# Altium footprint library myPcbLib.PcbLib: 32 footprints (part 2 of 2)
Each footprint in its own frame and in the unit in brackets; x right, y up, seen from the top. Pads: shape width x height; smd on the part's side, far side on the other; paste and mask are expansions set on the pad; w line width, h text height; cw(c..) or ccw(c..) is an arc to the next point about the centre after c.
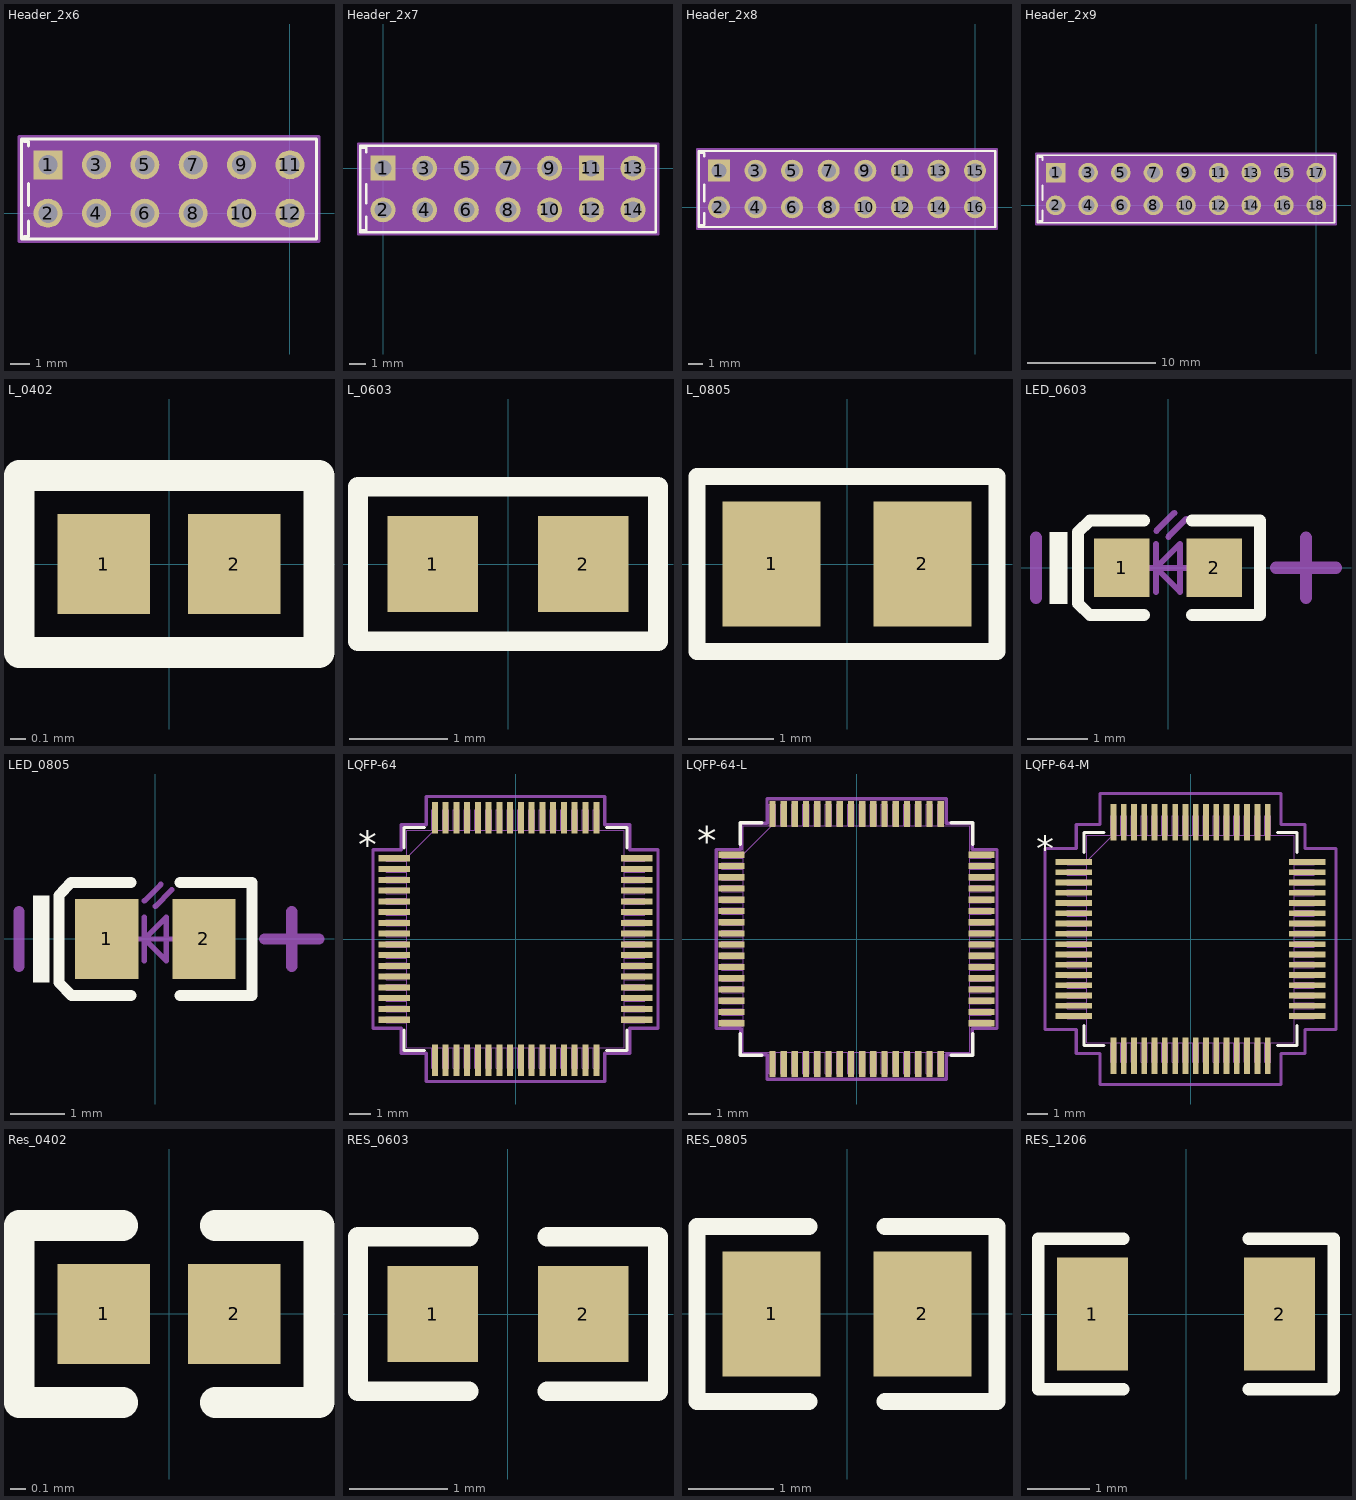
[diagram p1: the footprints below, top view; thin cyan lines are the x and y axes]

## Header_2x6 [mil] "2x6P双排排针，脚距2.54mm"
pads (12):
  rect 60x60 hole 40 mask+0: 1(-500,100)
  round 60 hole 40 mask+0: 2(-500,0) 3(-400,100) 4(-400,0) 5(-300,100) 6(-300,0) 7(-200,100) 8(-200,0) 9(-100,100) 10(-100,0) 11(0,100) 12(0,0)
Top Overlay:
  lines w6: -550,-48.5 -540,-48.5 -540,-16.05 ; -550,148.5 -540,148.5 -540,138.46 ; -540,16.05 -540,61.54 ; -555,-53.5 -555,153.5 55,153.5 55,-53.5 -555,-53.5
Mechanical 13:
  lines w1: -550,-48.5 -550,148.5 ; -550,-48.5 50,-48.5 50,148.5 -550,148.5 ; -550,-48.5 -540,-48.5 -540,148.5 -550,148.5
Mechanical 15:
  region: 60,158.5 -560,158.5 -560,-58.5 60,-58.5
  lines w6: -560,-58.5 60,-58.5 60,158.5 -560,158.5 -560,-58.5
3D body: height 10, standoff 0, extent 0,0 10,10
3D body "CON12_2X6_P100UM_HDR.stp": height 374.02, standoff -200, extent -549.99,-49.99 50.01,150.01

## Header_2x7 [mil] "2x7P双排排针，脚距2.54mm"
pads (14):
  rect 60x60 hole 40 mask+0: 1(0,0) 11(500,0)
  round 60 hole 40 mask+0: 2(0,-100) 3(100,0) 4(100,-100) 5(200,0) 6(200,-100) 7(300,0) 8(300,-100) 9(400,0) 10(400,-100) 12(500,-100) 13(600,0) 14(600,-100)
Top Overlay:
  lines w6: -50,-148.5 -40,-148.5 -40,-116.05 ; -50,48.5 -40,48.5 -40,38.46 ; -40,-83.95 -40,-38.46 ; -55,-153.5 -55,53.5 655,53.5 655,-153.5 -55,-153.5
Mechanical 13:
  lines w1: 460,-148.5 450,-148.5 ; 460,48.5 450,48.5 ; -50,-148.5 -50,48.5 ; -50,-148.5 450,-148.5 ; -50,-148.5 -40,-148.5 -40,48.5 -50,48.5 ; -50,48.5 450,48.5 ; 450,-148.5 650,-148.5 650,48.5 450,48.5
Mechanical 15:
  region: 660,58.5 -60,58.5 -60,-158.5 660,-158.5
  lines w6: -60,-158.5 660,-158.5 660,58.5 -60,58.5 -60,-158.5
3D body: height 10, standoff 0, extent 400,-100 410,-90
3D body "CON10_2X5_P100UM_HDR2.stp": height 374.02, standoff -200, extent -49.99,-149.99 450.01,50.01
3D body "CON4_2X2_P100UM_HDR.stp": height 374.02, standoff -200, extent 450.01,-149.99 650.01,50.01
3D body: height 10, standoff 0, extent 600,-100 610,-90
3D body: height 374.02, standoff -200, extent -60,75 -60,75

## Header_2x8 [mil] "2x8P双排排针，脚距2.54mm"
pads (16):
  rect 60x60 hole 40 mask+0: 1(-700,100)
  round 60 hole 40 mask+0: 2(-700,0) 3(-600,100) 4(-600,0) 5(-500,100) 6(-500,0) 7(-400,100) 8(-400,0) 9(-300,100) 10(-300,0) 11(-200,100) 12(-200,0) 13(-100,100) 14(-100,0) 15(0,100) 16(0,0)
Top Overlay:
  lines w6: -750,-48.5 -740,-48.5 -740,-16.05 ; -750,148.5 -740,148.5 -740,138.46 ; -740,16.05 -740,61.54 ; -755,-53.5 55,-53.5 55,153.5 -755,153.5 -755,-53.5
Mechanical 13:
  lines w1: -750,-48.5 -740,-48.5 -740,148.5 -750,148.5 ; -750,-48.5 50,-48.5 50,148.5 -750,148.5 ; -750,-48.5 -750,148.5
Mechanical 15:
  region: 60,158.5 -760,158.5 -760,-58.5 60,-58.5
  lines w6: -760,-58.5 -760,158.5 60,158.5 60,-58.5 -760,-58.5
3D body "CON16_2X8_P100UM_HDR.stp": height 374.02, standoff -200, extent -749.99,-49.99 50.01,150.01
3D body: height 10, standoff 0, extent 0,0 10,10

## Header_2x9 [mil] "2x9P双排排针，脚距2.54mm"
pads (18):
  rect 60x60 hole 40 mask+0: 1(-800,100)
  round 60 hole 40 mask+0: 2(-800,0) 3(-700,100) 4(-700,0) 5(-600,100) 6(-600,0) 7(-500,100) 8(-500,0) 9(-400,100) 10(-400,0) 11(-300,100) 12(-300,0) 13(-200,100) 14(-200,0) 15(-100,100) 16(-100,0) 17(0,100) 18(0,0)
Top Overlay:
  lines w6: -850,-48.5 -840,-48.5 -840,-16.05 ; -850,148.5 -840,148.5 -840,138.46 ; -840,16.05 -840,61.54 ; -855,-53.5 -855,153.5 55,153.5 55,-53.5 -855,-53.5
Mechanical 13:
  lines w1: -850,-48.5 -850,148.5 ; -850,-48.5 50,-48.5 50,148.5 -850,148.5 ; -850,-48.5 -840,-48.5 -840,148.5 -850,148.5
Mechanical 15:
  region: 60,158.5 -860,158.5 -860,-58.5 60,-58.5
  lines w6: -860,-58.5 60,-58.5 60,158.5 -860,158.5 -860,-58.5
3D body: height 10, standoff 0, extent 0,0 10,10
3D body "CON18_2X9_P100UM_HDR.stp": height 374.02, standoff -200, extent -849.99,-49.99 50.01,150.01

## L_0402 [mm] "贴片电感0402封装"
pads (2):
  rect 0.6x0.65 smd mask+0.051: 1(-0.425,0) 2(0.425,0)
Top Overlay:
  lines w0.2: -0.975,-0.575 0.975,-0.575 0.975,0.575 -0.975,0.575 -0.975,-0.575
3D body "L0402.STEP": height 0.36, standoff -0.01, extent -0.512,-0.262 0.538,0.263

## L_0603 [mm] "贴片电感0603封装"
pads (2):
  rect 0.93x0.98 smd: 1(-0.77,0) 2(0.77,0)
Top Overlay:
  lines w0.2: -1.535,-0.79 1.535,-0.79 1.535,0.79 -1.535,0.79 -1.535,-0.79
3D body "L0603.STEP": height 0.46, standoff -0.01, extent -0.825,-0.412 0.825,0.413

## L_0805 [mm] "贴片电感0805封装"
pads (2):
  rect 1.16x1.47 smd: 1(-0.89,0) 2(0.89,0)
Top Overlay:
  lines w0.2: -1.77,-1.035 -1.77,1.035 1.77,1.035 1.77,-1.035 -1.77,-1.035
3D body "L0805.STEP": height 0.6, standoff -0.02, extent -1.022,-0.637 1.028,0.638

## LED_0603 [mm] "发光二极管0603封装"
pads (2):
  rect 0.93x0.98 smd: 1(-0.77,0) 2(0.77,0)
Top Overlay:
  rectangle: -1.975,-0.6 -1.675,0.6
  lines w0.2: -0.4,-0.79 -1.3,-0.79 -1.5,-0.597 -1.5,0.597 -1.3,0.79 -0.4,0.79 ; 0.4,-0.79 1.535,-0.79 1.535,0.79 0.4,0.79
Mechanical 13:
  lines w0.1: -0.4,0 0.4,0 ; -0.2,-0.4 -0.2,0.4 ; -0.195,0.617 0.105,0.917 ; 0.005,0.517 0.305,0.817 ; -0.2,0 0.2,-0.4 0.2,0.4 -0.2,0
Mechanical 15:
  lines w0.203: -2.2,-0.5 -2.2,0.5 ; 1.8,0 2.8,0 ; 2.3,-0.5 2.3,0.5
3D body "User Library-LED_0603_R.STEP": height 0.6, standoff 0, extent -0.8,-0.4 0.8,0.4

## LED_0805 [mm] "发光二极管0805封装"
pads (2):
  rect 1.16x1.47 smd: 1(-0.89,0) 2(0.89,0)
Top Overlay:
  rectangle: -2.245,-0.8 -1.945,0.8
  lines w0.2: -0.45,-1.035 -1.535,-1.035 -1.77,-0.8 -1.77,0.8 -1.55,1.035 -0.45,1.035 ; 0.45,-1.035 1.77,-1.035 1.77,1.035 0.45,1.035
Mechanical 13:
  lines w0.1: -0.4,0 0.4,0 ; -0.2,-0.4 -0.2,0.4 ; -0.2,0.7 0.1,1 ; 0,0.6 0.3,0.9 ; -0.2,0 0.2,-0.4 0.2,0.4 -0.2,0
Mechanical 15:
  lines w0.203: -2.5,-0.5 -2.5,0.5 ; 2,0 3,0 ; 2.5,-0.5 2.5,0.5
3D body "User Library-led_0805.step": height 1.1, standoff 0, extent -1.01,-0.625 1.01,0.625

## LQFP-64 [mil] "64脚，体宽10x10mm，脚距0.5mm"
pads (64):
  rect 58x11 smd paste+0 mask+0: 1(-221.5,147.64) 2(-221.5,127.95) 3(-221.5,108.27) 4(-221.5,88.58) 5(-221.5,68.9) 6(-221.5,49.21) 7(-221.5,29.53) 8(-221.5,9.84) 9(-221.5,-9.84) 10(-221.5,-29.53) 11(-221.5,-49.21) 12(-221.5,-68.9) 13(-221.5,-88.58) 14(-221.5,-108.27) 15(-221.5,-127.95) 16(-221.5,-147.64) 33(221.5,-147.64) 34(221.5,-127.95) 35(221.5,-108.27) 36(221.5,-88.58) 37(221.5,-68.9) 38(221.5,-49.21) 39(221.5,-29.53) 40(221.5,-9.84) 41(221.5,9.84) 42(221.5,29.53) 43(221.5,49.21) 44(221.5,68.9) 45(221.5,88.58) 46(221.5,108.27) 47(221.5,127.95) 48(221.5,147.64)
  rect 11x58 smd paste+0 mask+0: 17(-147.64,-221.5) 18(-127.95,-221.5) 19(-108.27,-221.5) 20(-88.58,-221.5) 21(-68.9,-221.5) 22(-49.21,-221.5) 23(-29.53,-221.5) 24(-9.84,-221.5) 25(9.84,-221.5) 26(29.53,-221.5) 27(49.21,-221.5) 28(68.9,-221.5) 29(88.58,-221.5) 30(108.27,-221.5) 31(127.95,-221.5) 32(147.64,-221.5) 49(147.64,221.5) 50(127.95,221.5) 51(108.27,221.5) 52(88.58,221.5) 53(68.9,221.5) 54(49.21,221.5) 55(29.53,221.5) 56(9.84,221.5) 57(-9.84,221.5) 58(-29.53,221.5) 59(-49.21,221.5) 60(-68.9,221.5) 61(-88.58,221.5) 62(-108.27,221.5) 63(-127.95,221.5) 64(-147.64,221.5)
Top Overlay:
  lines w6: -204,-166.24 -204,-204 -166.24,-204 ; -204,166.24 -204,204 -166.24,204 ; 166.24,-204 204,-204 204,-166.24 ; 166.24,204 204,204 204,166.24
  text "*" at -288,147.48 h50
Mechanical 13:
  drawing of 261 lines, arcs and shapes, not listed
  text "*" at -196.5,132.48 h50
Mechanical 15:
  lines w6: -260.5,-163.14 -209,-163.14 -209,-209 -163.14,-209 -163.14,-260.5 163.14,-260.5 163.14,-209 209,-209 209,-163.14 260.5,-163.14 260.5,163.14 209,163.14 209,209 163.14,209 163.14,260.5 -163.14,260.5 -163.14,209 -209,209 -209,163.14 -260.5,163.14 -260.5,-163.14
3D body: height 10, standoff 0, extent 0,0 10,10
3D body "LQFP64-10x10.STEP": height 57.09, standoff -0.2, extent -236.33,-236.34 236.34,236.33

## LQFP-64-L [mil] "64脚，体宽10x10mm，脚距0.5mm"
pads (64):
  rect 46x11 smd paste+0 mask+0: 1(-219.5,147.64) 2(-219.5,127.95) 3(-219.5,108.27) 4(-219.5,88.58) 5(-219.5,68.9) 6(-219.5,49.21) 7(-219.5,29.53) 8(-219.5,9.84) 9(-219.5,-9.84) 10(-219.5,-29.53) 11(-219.5,-49.21) 12(-219.5,-68.9) 13(-219.5,-88.58) 14(-219.5,-108.27) 15(-219.5,-127.95) 16(-219.5,-147.64) 33(219.5,-147.64) 34(219.5,-127.95) 35(219.5,-108.27) 36(219.5,-88.58) 37(219.5,-68.9) 38(219.5,-49.21) 39(219.5,-29.53) 40(219.5,-9.84) 41(219.5,9.84) 42(219.5,29.53) 43(219.5,49.21) 44(219.5,68.9) 45(219.5,88.58) 46(219.5,108.27) 47(219.5,127.95) 48(219.5,147.64)
  rect 11x46 smd paste+0 mask+0: 17(-147.64,-219.5) 18(-127.95,-219.5) 19(-108.27,-219.5) 20(-88.58,-219.5) 21(-68.9,-219.5) 22(-49.21,-219.5) 23(-29.53,-219.5) 24(-9.84,-219.5) 25(9.84,-219.5) 26(29.53,-219.5) 27(49.21,-219.5) 28(68.9,-219.5) 29(88.58,-219.5) 30(108.27,-219.5) 31(127.95,-219.5) 32(147.64,-219.5) 49(147.64,219.5) 50(127.95,219.5) 51(108.27,219.5) 52(88.58,219.5) 53(68.9,219.5) 54(49.21,219.5) 55(29.53,219.5) 56(9.84,219.5) 57(-9.84,219.5) 58(-29.53,219.5) 59(-49.21,219.5) 60(-68.9,219.5) 61(-88.58,219.5) 62(-108.27,219.5) 63(-127.95,219.5) 64(-147.64,219.5)
Top Overlay:
  lines w6: -204,-166.24 -204,-204 -166.24,-204 ; -204,166.24 -204,204 -166.24,204 ; 166.24,-204 204,-204 204,-166.24 ; 166.24,204 204,204 204,166.24
  text "*" at -280,147.48 h50
Mechanical 13:
  drawing of 261 lines, arcs and shapes, not listed
  text "*" at -196.5,132.48 h50
Mechanical 15:
  lines w6: -246.5,-157.14 -246.5,157.14 -203,157.14 -203,203 -157.14,203 -157.14,246.5 157.14,246.5 157.14,203 203,203 203,157.14 246.5,157.14 246.5,-157.14 203,-157.14 203,-203 157.14,-203 157.14,-246.5 -157.14,-246.5 -157.14,-203 -203,-203 -203,-157.14 -246.5,-157.14
3D body: height 10, standoff 0, extent 0,0 10,10
3D body "LQFP64-10x10.STEP": height 57.09, standoff -0.2, extent -236.33,-236.34 236.34,236.33

## LQFP-64-M [mil] "64脚，体宽10x10mm，脚距0.5mm"
pads (64):
  rect 70x11 smd paste+0 mask+0: 1(-223.5,147.64) 2(-223.5,127.95) 3(-223.5,108.27) 4(-223.5,88.58) 5(-223.5,68.9) 6(-223.5,49.21) 7(-223.5,29.53) 8(-223.5,9.84) 9(-223.5,-9.84) 10(-223.5,-29.53) 11(-223.5,-49.21) 12(-223.5,-68.9) 13(-223.5,-88.58) 14(-223.5,-108.27) 15(-223.5,-127.95) 16(-223.5,-147.64) 33(223.5,-147.64) 34(223.5,-127.95) 35(223.5,-108.27) 36(223.5,-88.58) 37(223.5,-68.9) 38(223.5,-49.21) 39(223.5,-29.53) 40(223.5,-9.84) 41(223.5,9.84) 42(223.5,29.53) 43(223.5,49.21) 44(223.5,68.9) 45(223.5,88.58) 46(223.5,108.27) 47(223.5,127.95) 48(223.5,147.64)
  rect 11x70 smd paste+0 mask+0: 17(-147.64,-223.5) 18(-127.95,-223.5) 19(-108.27,-223.5) 20(-88.58,-223.5) 21(-68.9,-223.5) 22(-49.21,-223.5) 23(-29.53,-223.5) 24(-9.84,-223.5) 25(9.84,-223.5) 26(29.53,-223.5) 27(49.21,-223.5) 28(68.9,-223.5) 29(88.58,-223.5) 30(108.27,-223.5) 31(127.95,-223.5) 32(147.64,-223.5) 49(147.64,223.5) 50(127.95,223.5) 51(108.27,223.5) 52(88.58,223.5) 53(68.9,223.5) 54(49.21,223.5) 55(29.53,223.5) 56(9.84,223.5) 57(-9.84,223.5) 58(-29.53,223.5) 59(-49.21,223.5) 60(-68.9,223.5) 61(-88.58,223.5) 62(-108.27,223.5) 63(-127.95,223.5) 64(-147.64,223.5)
Top Overlay:
  lines w6: -204,-166.24 -204,-204 -166.24,-204 ; -204,166.24 -204,204 -166.24,204 ; 166.24,-204 204,-204 204,-166.24 ; 166.24,204 204,204 204,166.24
  text "*" at -296,147.48 h50
Mechanical 13:
  drawing of 261 lines, arcs and shapes, not listed
  text "*" at -196.5,132.48 h50
Mechanical 15:
  lines w6: -278.5,-173.14 -219,-173.14 -219,-219 -173.14,-219 -173.14,-278.5 173.14,-278.5 173.14,-219 219,-219 219,-173.14 278.5,-173.14 278.5,173.14 219,173.14 219,219 173.14,219 173.14,278.5 -173.14,278.5 -173.14,219 -219,219 -219,173.14 -278.5,173.14 -278.5,-173.14
3D body: height 10, standoff 0, extent 0,0 10,10
3D body "LQFP64-10x10.STEP": height 57.09, standoff -0.2, extent -236.33,-236.34 236.34,236.33

## Res_0402 [mm] "贴片电阻，0402封装"
pads (2):
  rect 0.6x0.65 smd mask+0.051: 1(-0.425,0) 2(0.425,0)
Top Overlay:
  lines w0.2: -0.3,-0.575 -0.975,-0.575 -0.975,0.575 -0.3,0.575 ; 0.3,-0.575 0.975,-0.575 0.975,0.575 0.3,0.575
3D body "User Library-RES_1005-0402.STEP": height 0.41, standoff 0, extent -0.575,-0.275 0.575,0.275

## RES_0603 [mm] "贴片电阻，0603封装"
pads (2):
  rect 0.93x0.98 smd: 1(-0.77,0) 2(0.77,0)
Top Overlay:
  lines w0.2: -0.4,-0.79 -1.535,-0.79 -1.535,0.79 -0.4,0.79 ; 0.4,-0.79 1.535,-0.79 1.535,0.79 0.4,0.79
3D body "User Library-RES_1609-0603.STEP": height 0.56, standoff 0, extent -0.85,-0.4 0.85,0.4

## RES_0805 [mm] "贴片电阻，0805封装"
pads (2):
  rect 1.16x1.47 smd: 1(-0.89,0) 2(0.89,0)
Top Overlay:
  lines w0.2: -0.45,-1.035 -1.77,-1.035 -1.77,1.035 -0.45,1.035 ; 0.45,-1.035 1.77,-1.035 1.77,1.035 0.45,1.035
3D body "User Library-R_0805.STEP": height 0.49, standoff -0.01, extent -0.997,-0.625 1.003,0.625

## RES_1206 [mm] "贴片电阻，1206封装"
pads (2):
  rect 1.13x1.8 smd: 1(-1.49,0) 2(1.49,0)
Top Overlay:
  lines w0.2: -1,-1.2 -2.355,-1.2 -2.355,1.2 -1,1.2 ; 1,-1.2 2.355,-1.2 2.355,1.2 1,1.2
3D body "User Library-RES_3216-1206.STEP": height 0.85, standoff 0, extent -1.7,-0.864 1.65,0.866